# Altium footprint library 27_DIP_7.62mm.PcbLib: 1 footprints
Each footprint in its own frame and in the unit in brackets; x right, y up, seen from the top. Pads: shape width x height; smd on the part's side, far side on the other; paste and mask are expansions set on the pad; w line width, h text height; cw(c..) or ccw(c..) is an arc to the next point about the centre after c.
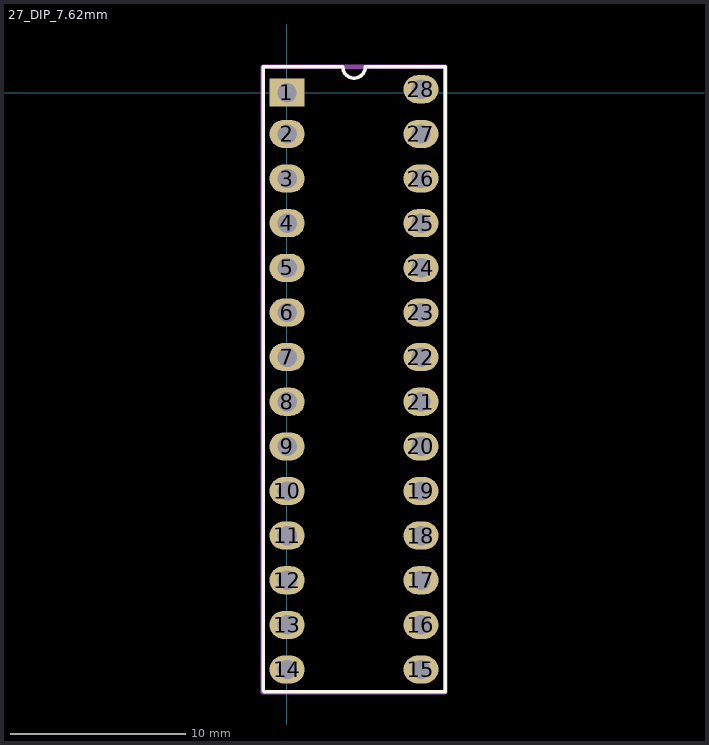
[diagram p0: the footprint, top view; thin cyan lines are the x and y axes]

## 27_DIP_7.62mm [mm]
pads (28):
  rect 2x1.6 hole 1.1: 1(0,0)
  oval 2x1.6 hole 1.1: 2(0.01,-2.35) 3(0.01,-4.89) 4(0.01,-7.43) 5(0.01,-9.97) 6(0.01,-12.51) 7(0.01,-15.05) 8(0.01,-17.59) 9(0.01,-20.13) 10(0.01,-22.67) 11(0.01,-25.21) 12(0.01,-27.75) 13(0.01,-30.29) 14(0.01,-32.83) 15(7.63,-32.83) 16(7.63,-30.29) 17(7.63,-27.75) 18(7.63,-25.21) 19(7.63,-22.67) 20(7.63,-20.13) 21(7.63,-17.59) 22(7.63,-15.05) 23(7.63,-12.51) 24(7.63,-9.97) 25(7.63,-7.43) 26(7.63,-4.89) 27(7.63,-2.35) 28(7.63,0.19)
Top Overlay:
  lines w0.2: 4.455,1.46 cw(c3.82,1.46) 3.185,1.46 -1.355,1.46 -1.355,-0.763 -1.355,-5.208 -1.355,-7.43 -1.355,-11.875 -1.355,-20.765 -1.355,-25.21 -1.355,-27.433 -1.355,-31.878 -1.355,-34.045 -1.3,-34.1 9.02,-34.1 9.02,1.46 4.555,1.46
Mechanical 2:
  circle w1: c-0.085,0.08 r0.1
  lines w0.254: -1.385,-34.12 9.015,-34.12 9.015,1.48 -1.385,1.48 -1.385,-34.12
  text ".Designator" at 4.253,-21.966 h1.52
3D body "User Library-28 pin dip.step": height 4.65, standoff -1.57, extent -0.227,-34.26 7.647,1.681